# EAGLE library part PHOTON (library myhvac)
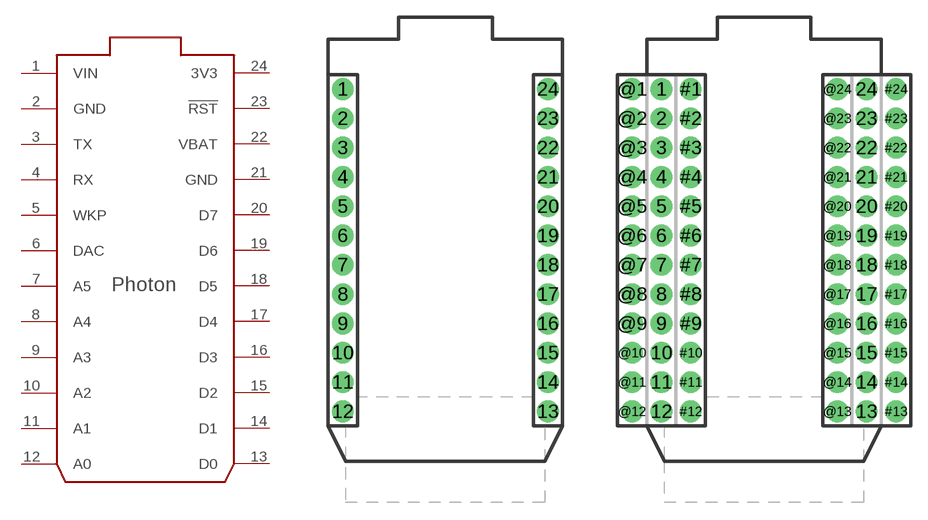
[diagram p7: symbol with the pads of PHOTON; footprints PHOTON, PHOTON_STACKABLE]

Designator prefix -

## PHOTON_WITH_HEADERS  [PHOTON]
1  VIN  pwr
2  GND  pwr
3  TX
4  RX
5  WKP
6  DAC
7  A5
8  A4
9  A3
10  A2
11  A1
12  A0
13  D0
14  D1
15  D2
16  D3
17  D4
18  D5
19  D6
20  D7
21  GND  pwr
22  VBAT  pwr
23  !RST
24  3V3  pwr

## PHOTON_WITH_STACKABLE_HEADERS  [PHOTON_STACKABLE]
1  VIN  pwr
2  GND  pwr
3  TX
4  RX
5  WKP
6  DAC
7  A5
8  A4
9  A3
10  A2
11  A1
12  A0
13  D0
14  D1
15  D2
16  D3
17  D4
18  D5
19  D6
20  D7
21  GND  pwr
22  VBAT  pwr
23  !RST
24  3V3  pwr
#1  VIN  pwr
#2  GND  pwr
#3  TX
#4  RX
#5  WKP
#6  DAC
#7  A5
#8  A4
#9  A3
#10  A2
#11  A1
#12  A0
#13  D0
#14  D1
#15  D2
#16  D3
#17  D4
#18  D5
#19  D6
#20  D7
#21  GND  pwr
#22  VBAT  pwr
#23  !RST
#24  3V3  pwr
@1  VIN  pwr
@2  GND  pwr
@3  TX
@4  RX
@5  WKP
@6  DAC
@7  A5
@8  A4
@9  A3
@10  A2
@11  A1
@12  A0
@13  D0
@14  D1
@15  D2
@16  D3
@17  D4
@18  D5
@19  D6
@20  D7
@21  GND  pwr
@22  VBAT  pwr
@23  !RST
@24  3V3  pwr

## Footprint PHOTON (pad centres in mm)
drill 1.016 pad 1.88: 1 1.27,32.258; 2 1.27,29.718; 3 1.27,27.178; 4 1.27,24.638; 5 1.27,22.098; 6 1.27,19.558; 7 1.27,17.018; 8 1.27,14.478; 9 1.27,11.938; 10 1.27,9.398; 11 1.27,6.858; 12 1.27,4.318; 13 19.05,4.318; 14 19.05,6.858; 15 19.05,9.398; 16 19.05,11.938; 17 19.05,14.478; 18 19.05,17.018; 19 19.05,19.558; 20 19.05,22.098; 21 19.05,24.638; 22 19.05,27.178; 23 19.05,29.718; 24 19.05,32.258

## Footprint PHOTON_STACKABLE (pad centres in mm)
drill 1.016 pad 1.88: 1 1.27,32.258; 2 1.27,29.718; 3 1.27,27.178; 4 1.27,24.638; 5 1.27,22.098; 6 1.27,19.558; 7 1.27,17.018; 8 1.27,14.478; 9 1.27,11.938; 10 1.27,9.398; 11 1.27,6.858; 12 1.27,4.318; 13 19.05,4.318; 14 19.05,6.858; 15 19.05,9.398; 16 19.05,11.938; 17 19.05,14.478; 18 19.05,17.018; 19 19.05,19.558; 20 19.05,22.098; 21 19.05,24.638; 22 19.05,27.178; 23 19.05,29.718; 24 19.05,32.258; #1 3.81,32.258; #2 3.81,29.718; #3 3.81,27.178; #4 3.81,24.638; #5 3.81,22.098; #6 3.81,19.558; #7 3.81,17.018; #8 3.81,14.478; #9 3.81,11.938; #10 3.81,9.398; #11 3.81,6.858; #12 3.81,4.318; #13 21.59,4.318; #14 21.59,6.858; #15 21.59,9.398; #16 21.59,11.938; #17 21.59,14.478; #18 21.59,17.018; #19 21.59,19.558; #20 21.59,22.098; #21 21.59,24.638; #22 21.59,27.178; #23 21.59,29.718; #24 21.59,32.258; @1 -1.27,32.258; @2 -1.27,29.718; @3 -1.27,27.178; @4 -1.27,24.638; @5 -1.27,22.098; @6 -1.27,19.558; @7 -1.27,17.018; @8 -1.27,14.478; @9 -1.27,11.938; @10 -1.27,9.398; @11 -1.27,6.858; @12 -1.27,4.318; @13 16.51,4.318; @14 16.51,6.858; @15 16.51,9.398; @16 16.51,11.938; @17 16.51,14.478; @18 16.51,17.018; @19 16.51,19.558; @20 16.51,22.098; @21 16.51,24.638; @22 16.51,27.178; @23 16.51,29.718; @24 16.51,32.258